# Altium schematic symbol library Schlib1.SchLib: 211 symbols (part 2 of 2)
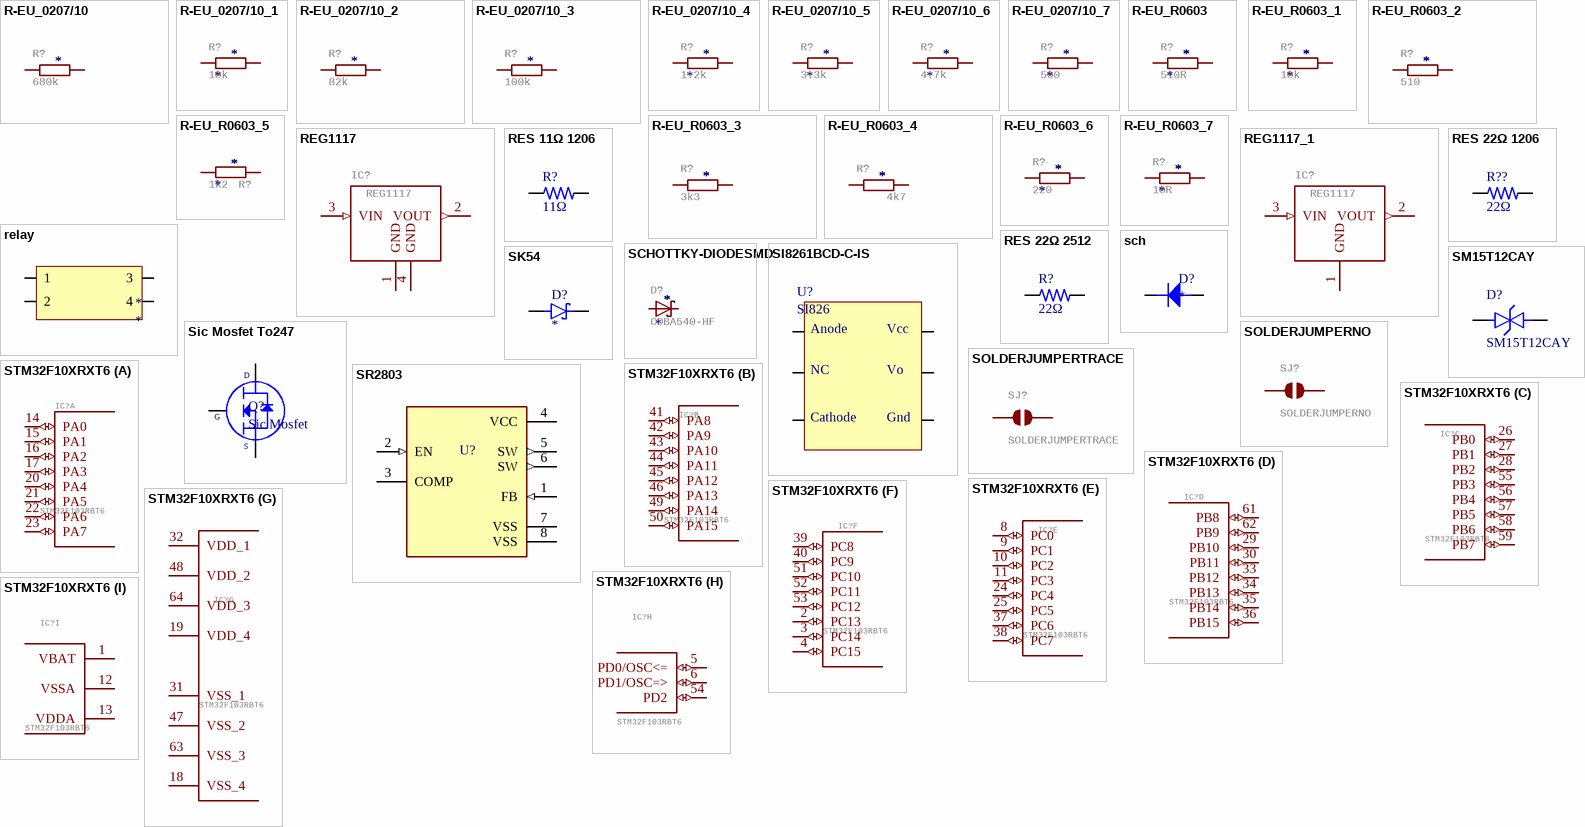
[diagram p6: symbols R-EU_0207/10 to STM32F10XRXT6]

## R-EU_R0603_7
designator R?  value 10R
RESISTOR, European symbol; GateName_1: G$1; SymbolName_1: R-EU; DeviceName: R0603; DeviceSetName: R-EU_; LibraryName: rcl
footprint R0603
pins: 1, 2

## REG1117
designator IC?
800mA and 1A Low Dropout (LDO) Positive Regulator   1.8V, 2.5V, 2.85V, 3.3V, 5V, and Adj; GateName_1: G$1; SymbolName_1: REG1118; LibraryName: burr-brown; DeviceSetName: REG1117; MF: MF; MPN: REG1117; OC_FARNELL: 1097566; OC_NEWARK: 14P6981
footprint SOT223
pins: 1 GND (power), 2 VOUT (out), 3 VIN (in), 4 GND (power)

## REG1117_1
designator IC?, comment REG1117
800mA and 1A Low Dropout (LDO) Positive Regulator   1.8V, 2.5V, 2.85V, 3.3V, 5V, and Adj; GateName_1: G$1; SymbolName_1: REG1118; LibraryName: burr-brown; DeviceSetName: REG1117; MF: MF; MPN: REG1117; OC_FARNELL: 1097566; OC_NEWARK: 14P6981
footprint SOT223
pins: 1 GND (power), 2 VOUT (out), 3 VIN (in)

## relay
designator *
footprint Relay
pins: 1, 2, 3, 4

## RES 11Ω 1206
designator R?, comment 11Ω
CRG1206 1% 11R; MP: 1623463-1; Package: None; Price: None; Value: *; Availability: Unavailable
footprint R-1206W (resistor 1206 wave soldering)
pins: 1, 2

## RES 22Ω 1206
designator R??, comment 22Ω
CRG1206 1% 22R; MP: 1623463-1; Package: None; Price: None; Value: *; Availability: Unavailable
footprint R-1206W (resistor 1206 wave soldering)
pins: 1, 2

## RES 22Ω 2512
designator R?, comment 22Ω
footprint R-2512R (resistor 2512 reflow soldering)
footprint R-1206
pins: 1, 2

## sch
designator D?
DIODE FAST SWITCHING Single 150mA 75V SMT SOD323
footprint DPAK_TO263 - sch (D2-PAK, 3-Pads, Body 7.93x8.70mm (max), IPC Medium Density)
pins: 1, 2

## SCHOTTKY-DIODESMD
designator D?  value CDBA540-HF
Schottky Diode; GateName_1: G$1; DeviceName: SMD; DeviceSetName: SCHOTTKY-DIODE; SymbolName_1: SCHOTTKY; LibraryName: diode
footprint SMB
pins: A, C

## SI8261BCD-C-IS
designator U?, comment SI826
Gate Drivers 5kV Opto input single Ch 2.5A drvr; Manufacturer: Silicon Labs; Manufacturer Part Number: SI8261BCD-C-IS; Number of Channels: 1; Propagation Delay: 50ns; Number of Outputs: 2; Max Output Current: 4A; Max Supply Voltage: 30V; Min Supply Voltage: 5V; Rise Time: 5.5ns; Output Current: 10mA; Nominal Supply Current: 2mA; Max Power Dissipation: 300mW; Output Voltage: 250mV; Forward Voltage: 2.8V; High Level Output Current: 1.2A; Low Level Output Current: 500mA; Fall Time: 8.5ns; Turn-On Delay Time: 60ns; Pulse Width Distortion (PWD): 10ns; Approvals: CSA; Supplier 1: Digi-Key; RoHS: Yes; Stock 1: 6966; Pricing 1: 1 = 1.95000, 25 = 1.88040, 100 = 1.80800, 1000 = 1.65000 (USD); Case/Package: SOIC; Number of Pins: 6; Min Operating Temperature: -40°C; Max Operating Temperature: 125°C; Package Quantity: 96; Packaging: Rail/Tube; Number of Drivers: 1; Element Configuration: Single; Length: 4.58mm; Height: 2.05mm; Width: 11.5mm; REACH SVHC: Unknown; ComponentLink1URL: https://datasheet.ciiva.com/30476/0900766b81299254-30476857.pdf?src-supplier=RSComponents; ComponentLink1Description: https://datasheet.ciiva.com/30476/0900766b81299254-30476857.pdf?src-supplier=RSComponents; ComponentLink2URL: https://datasheet.ciiva.com/18617/si826x-rev0-9-18617221.pdf?src-supplier=Digi-Key; ComponentLink2Description: https://datasheet.ciiva.com/18617/si826x-rev0-9-18617221.pdf?src-supplier=Digi-Key; ComponentLink3URL: https://datasheet.ciiva.com/46409/1816586-46409901.pdf?src-supplier=Element14; ComponentLink3Description: https://datasheet.ciiva.com/46409/1816586-46409901.pdf?src-supplier=Element14; Supplier Part Number 1: 336-2418-5-ND
footprint SOIC127P1150X265-6N
pins: 1, 2, 3, 4, 5, 6
text: Anode; Vcc; NC; Vo; Cathode; Gnd

## Sic Mosfet To247
designator Q?, comment Sic Mosfet
SiC Mosfet To247
footprint 247
pins: 1, 2, 3
text: D; G; S

## SK54
designator D?
Diode Schottky 40V 5A Surface Mount DO-214AA (SMB); MP: MBRS320T3G; MF: ON Semiconductor; Package: DO-214 ON Semiconductor; Availability: Good; Arrow_Electronics-Purchase-URL: https://snapeda.com/shop?store=Arrow+Electronics&id=432205; SnapEDA_Link: https://www.snapeda.com/parts/MBRS320T3G/ON%20Semiconductor/view-part/432205/?ref=snap; DigiKey-Purchase-URL: https://snapeda.com/shop?store=DigiKey&id=432205; Mouser-Purchase-URL: https://snapeda.com/shop?store=Mouser&id=432205; Value: *; Price: None
footprint DIOM7959X265N
pins: A, C K

## SM15T12CAY
designator D?
21.7V Clamp 461A (8/20µs) Ipp Tvs Diode Surface Mount SMC; MP: SMBJ36CA-13-F; MF: Diodes Inc.; Package: DO-214 Diodes Inc.; Price: None; Value: *; SnapEDA_Link: https://www.snapeda.com/parts/SMBJ36CA-13-F/Diodes%20Inc./view-part/828964/?ref=snap; Availability: Unavailable
footprint DIOM7959X262N
pins: 1, 2

## SOLDERJUMPERNO
designator SJ?
Solder JumperStandard SMD solder jumper. Used to automate production. Two varients : Normally Open and Normally Closed are the same, but have different paste layers. NC will have a large amount of paste and should jumper during reflow.; GateName_1: 1; SymbolName_1: SJ; DeviceName: NO; LibraryName: SparkFun-Passives; DeviceSetName: SOLDERJUMPER
footprint SJ_2S-NO
pins: 1, 2

## SOLDERJUMPERTRACE
designator SJ?
Solder JumperStandard SMD solder jumper. Used to automate production. Two varients : Normally Open and Normally Closed are the same, but have different paste layers. NC will have a large amount of paste and should jumper during reflow.; GateName_1: 1; SymbolName_1: SJ; DeviceName: TRACE; LibraryName: SparkFun-Passives; DeviceSetName: SOLDERJUMPER
footprint SJ_2S-TRACE
pins: 1, 2

## SR2803
designator U?  (value not drawn)
330KHZ, 3A SYNCHRONOUS / BUCK CONTROLLER; MF: Taiwan Semiconductor Corporation; MP: TS2509CS RLG; Package: SOP-8 Taiwan Semiconductor; Check_prices: https://www.snapeda.com/parts/TS2509CS%20RLG/Taiwan+Semiconductor+Corporation/view-part/?ref=eda; Value: *; Price: None; Availability: In Stock; SnapEDA_Link: https://www.snapeda.com/parts/TS2509CS%20RLG/Taiwan+Semiconductor+Corporation/view-part/?ref=snap
footprint SOP127P600X175-8N
pins: 1 FB (in), 2 EN (in), 3 COMP, 4 VCC (power), 5 SW (out), 6 SW (out), 7 VSS (power), 8 VSS (power)

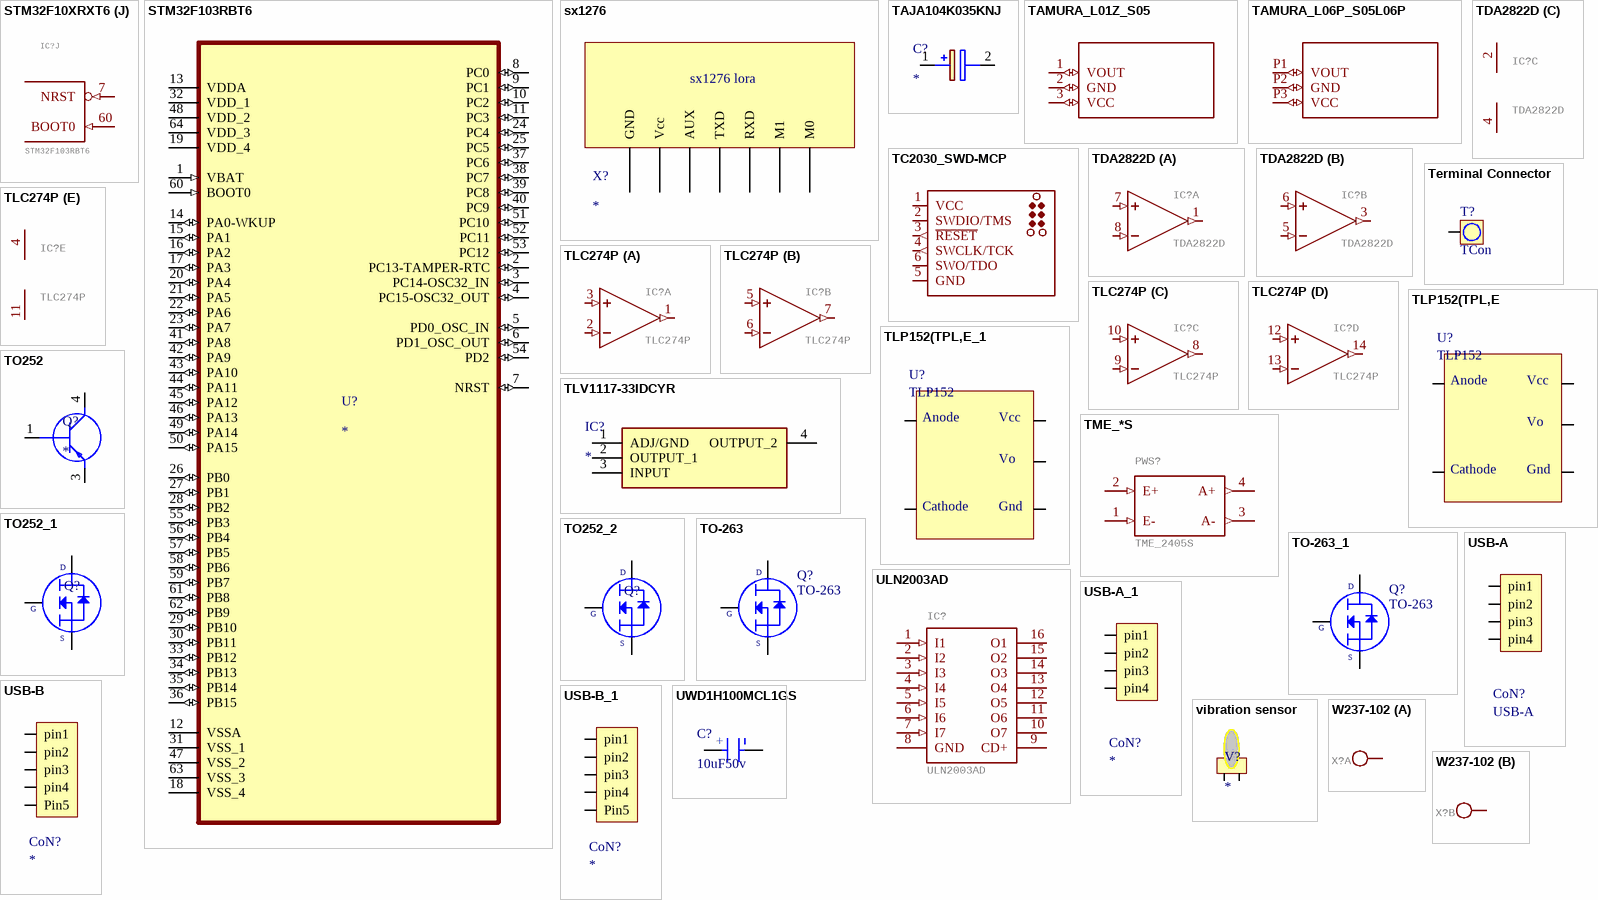
[diagram p5: symbols STM32F10XRXT6 to W237-102]

## STM32F10XRXT6
designator IC?, comment STM32F103RBT6
STM32F101/103 64pin LQFP; GateName_1: PORTA_L; SymbolName_1: PORT_A_L; GateName_2: PORTA_H; SymbolName_2: PORT_A_H; GateName_3: PORTB_L; SymbolName_3: PORT_B_L; GateName_4: PORTB_H; SymbolName_4: PORT_B_H; GateName_5: PORTC_L; SymbolName_5: PORT_C_L; GateName_6: PORTC_H; SymbolName_6: PORT_C_H; GateName_7: POWER; SymbolName_7: VCC_VDD_M; GateName_8: PORTD/OSC; SymbolName_8: PORT_D_3; GateName_9: AN_POWER; SymbolName_9: BAT_AN_M; GateName_10: RESET; SymbolName_10: BOOT_RST; DeviceSetName: STM32F10XRXT6; LibraryName: stm32
footprint TQFP64
part A pins: 14 PA0 (io), 15 PA1 (io), 16 PA2 (io), 17 PA3 (io), 20 PA4 (io), 21 PA5 (io), 22 PA6 (io), 23 PA7 (io)
part B pins: 41 PA8 (io), 42 PA9 (io), 43 PA10 (io), 44 PA11 (io), 45 PA12 (io), 46 PA13 (io), 49 PA14 (io), 50 PA15 (io)
part C pins: 26 PB0 (io), 27 PB1 (io), 28 PB2 (io), 55 PB3 (io), 56 PB4 (io), 57 PB5 (io), 58 PB6 (io), 59 PB7 (io)
part D pins: 29 PB10 (io), 30 PB11 (io), 33 PB12 (io), 34 PB13 (io), 35 PB14 (io), 36 PB15 (io), 61 PB8 (io), 62 PB9 (io)
part E pins: 8 PC0 (io), 9 PC1 (io), 10 PC2 (io), 11 PC3 (io), 24 PC4 (io), 25 PC5 (io), 37 PC6 (io), 38 PC7 (io)
part F pins: 2 PC13 (io), 3 PC14 (io), 4 PC15 (io), 39 PC8 (io), 40 PC9 (io), 51 PC10 (io), 52 PC11 (io), 53 PC12 (io)
part G pins: 18 VSS_4 (power), 19 VDD_4 (power), 31 VSS_1 (power), 32 VDD_1 (power), 47 VSS_2 (power), 48 VDD_2 (power), 63 VSS_3 (power), 64 VDD_3 (power)
part H pins: 5 PD0/OSC<= (io), 6 PD1/OSC=> (io), 54 PD2 (io)
part I pins: 1 VBAT (power), 12 VSSA (power), 13 VDDA (power)
part J pins: 7 NRST (in), 60 BOOT0 (in)

## STM32F103RBT6
designator U?
ARMÂ® CortexÂ®-M3 STM32F1 Microcontroller IC 32-Bit 72MHz 128KB _128K x 8_ FLASH; MP: STM32F103RBT6; MF: STMicroelectronics; Value: *; Package: LQFP-64 STMicroelectronics; Price: None; SnapEDA_Link: https://www.snapeda.com/parts/STM32F103RBT6/STMicroelectronics/view-part/558286/?ref=snap; Availability: Unavailable
footprint QFP50P1200X1200X160-64N
pins: 1 VBAT (in), 2 PC13-TAMPER-RTC (io), 3 PC14-OSC32_IN (io), 4 PC15-OSC32_OUT (io), 5 PD0_OSC_IN (io), 6 PD1_OSC_OUT (io), 7 NRST (io), 8 PC0 (io), 9 PC1 (io), 10 PC2 (io), 11 PC3 (io), 12 VSSA, 13 VDDA (power), 14 PA0-WKUP (io), 15 PA1 (io), 16 PA2 (io), 17 PA3 (io), 18 VSS_4, 19 VDD_4 (power), 20 PA4 (io), 21 PA5 (io), 22 PA6 (io), 23 PA7 (io), 24 PC4 (io), 25 PC5 (io), 26 PB0 (io), 27 PB1 (io), 28 PB2 (io), 29 PB10 (io), 30 PB11 (io), 31 VSS_1, 32 VDD_1 (power), 33 PB12 (io), 34 PB13 (io), 35 PB14 (io), 36 PB15 (io), 37 PC6 (io), 38 PC7 (io), 39 PC8 (io), 40 PC9 (io), 41 PA8 (io), 42 PA9 (io), 43 PA10 (io), 44 PA11 (io), 45 PA12 (io), 46 PA13 (io), 47 VSS_2, 48 VDD_2 (power), 49 PA14 (io), 50 PA15 (io), 51 PC10 (io), 52 PC11 (io), 53 PC12 (io), 54 PD2 (io), 55 PB3 (io), 56 PB4 (io), 57 PB5 (io), 58 PB6 (io), 59 PB7 (io), 60 BOOT0 (in), 61 PB8 (io), 62 PB9 (io), 63 VSS_3, 64 VDD_3 (power)

## sx1276
designator X?
footprint sx1276 lora
pins: 1 GND, 2 Vcc, 3 AUX, 4 TXD, 5 RXD, 6 M1, 7 M0
text: sx1276 lora

## TAJA104K035KNJ
designator C?
Capacitor Polarised; Manufacturer_Name: AVX; Manufacturer_Part_Number: TAJA104K035KNJ; Datasheet Link: http://www.farnell.com/datasheets/1680476.pdf; Height: 1.8mm; Mouser Part Number: 581-TAJA104K035KNJ; Mouser Price/Stock: https://www.mouser.com/Search/Refine.aspx?Keyword=581-TAJA104K035KNJ
footprint CAPPM3216X180N
footprint TANTALUMCAP1206
pins: 1 +, 2 -

## TAMURA_L01Z_S05
designator U$?  (value not drawn)
GateName_1: G$1; SymbolName_1: TAMURA_L01Z_S05; LibraryName: current sensor; DeviceSetName: TAMURA_L01Z_S05
footprint TAMURA_L01Z_S05
pins: 1 VOUT (io), 2 GND (io), 3 VCC (io)

## TAMURA_L06P_S05L06P
designator U$?  (value not drawn)
GateName_1: G$1; SymbolName_1: TAMURA_L01Z_S05; DeviceName: L06P; LibraryName: current sensor; DeviceSetName: TAMURA_L06P_S05
footprint TAMURA_L06P_S05
pins: P1 VOUT (io), P2 GND (io), P3 VCC (io)

## TC2030_SWD-MCP
designator J?  (value not drawn)
ARM20-CTX 20-Pin to TC2030-IDC Adapter for Cortex           6-Pin (TC2030-IDC family)  Cortex SWD  Adapters                  The Tag-Connect ARM20-CTX adapter board allows our TC2030-IDC cables to be used for ARM SWD (Single Wire Debug) applications. Although intended for use with our patented TC2030-IDC (and TC2030-IDC-NL) Plug-of-Nailsâ„¢ Cables, the adapter may be useful to people wishing to use 6-pin 0.1â€ ribbon headers on their PCB instead of the traditional 20-Pin header.   Please note the TC2030-IDC or TC2030-IDC-NL cable is purchased separately, the cables and Segger JLINK seen in the pictures are not included!   Download the Datasheet here.; GateName_1: G$1; DeviceName: -MCP; SymbolName_1: SWD; LibraryName: tag-connect; DeviceSetName: TC2030_SWD
footprint TC2030-MCP
pins: 1 VCC, 2 SWDIO/TMS (io), 3 ~{RESET} (out), 4 SWCLK/TCK (out), 5 GND, 6 SWO/TDO (io)

## TDA2822D
designator IC?
OP AMP; GateName_1: A; SymbolName_1: OPAMP; GateName_2: B; GateName_3: P; SymbolName_3: PWR+-; DeviceName: D; SymbolName_2: OPAMP; LibraryName: st-microelectronics; DeviceSetName: TDA2822
footprint SO08
part A pins: 1 OUT (out), 7 +IN (in), 8 -IN (in)
part B pins: 3 OUT (out), 5 -IN (in), 6 +IN (in)
part C pins: 2 V+ (power), 4 V- (power)

## Terminal Connector
designator T?, comment TCon
ComponentLink1Description: https://www.ozdisan.com/konnektor-baglanti-elemanlari/terminal-konnektorler/vida-tipi-konnektorler/K36-00AH; ComponentLink1URL: https://www.ozdisan.com/konnektor-baglanti-elemanlari/terminal-konnektorler/vida-tipi-konnektorler/K36-00AH
footprint connectorout
pins: 1

## TLC274P
designator IC?
OP AMP; GateName_1: A; SymbolName_1: OPAMP; GateName_2: B; GateName_3: C; GateName_4: D; GateName_5: P; SymbolName_5: PWR+-; DeviceSetName: TLC274; SymbolName_2: OPAMP; SymbolName_3: OPAMP; SymbolName_4: OPAMP; DeviceName: P; LibraryName: linear
footprint DIL14
part A pins: 1 OUT (out), 2 -IN (in), 3 +IN (in)
part B pins: 5 +IN (in), 6 -IN (in), 7 OUT (out)
part C pins: 8 OUT (out), 9 -IN (in), 10 +IN (in)
part D pins: 12 +IN (in), 13 -IN (in), 14 OUT (out)
part E pins: 4 V+ (power), 11 V- (power)

## TLP152(TPL,E
designator U?, comment TLP152
OPTOISO 3.75KV GATE DRIVER 6SO-5; Manufacturer: Toshiba; Manufacturer Part Number: TLP152(TPL,E; Number of Channels: 1; Propagation Delay: 165ns; Max Power Dissipation: 260mW; Direction: Unidirectional; Turn-On Delay Time: 190ns; Fall Time: 22ns; Forward Voltage: 1.57V; Output Current: 2.5A; Forward Current: 10mA; Rise Time: 18ns; High Level Output Current: 2A; Pulse Width Distortion (PWD): 50ns; Supplier 1: Mouser; RoHS: Yes; Stock 1: 22321; Pricing 1: 1 = 1.55000, 10 = 0.96800, 50 = 0.96800, 100 = 0.87200, 1000 = 0.54300, 10000 = 0.44000 (USD); Mount: Surface Mount; Case/Package: SO; Number of Pins: 5; Min Operating Temperature: -40°C; Max Operating Temperature: 100°C; Packaging: Tape and Reel; Package Quantity: 3000; Low Level Output Current: 2A; Max Output Current: 2.5A; ComponentLink1URL: https://datasheet.ciiva.com/41848/tlp152-datasheet-en-20120914-41848928.pdf?src-supplier=Digi-Key; ComponentLink1Description: https://datasheet.ciiva.com/41848/tlp152-datasheet-en-20120914-41848928.pdf?src-supplier=Digi-Key; Supplier Part Number 1: 757-TLP152TPLE
footprint TLP152 (SOTFL, 5-Leads, Body 3.75x7.20mm, Pitch 1.27mm, IPC Medium Density)
pins: 1, 2, 3, 4, 5
text: Anode; Vcc; Vo; Cathode; Gnd

## TLP152(TPL,E_1
designator U?, comment TLP152
OPTOISO 3.75KV GATE DRIVER 6SO-5; Manufacturer: Toshiba; Manufacturer Part Number: TLP152(TPL,E; Number of Channels: 1; Propagation Delay: 165ns; Max Power Dissipation: 260mW; Direction: Unidirectional; Turn-On Delay Time: 190ns; Fall Time: 22ns; Forward Voltage: 1.57V; Output Current: 2.5A; Forward Current: 10mA; Rise Time: 18ns; High Level Output Current: 2A; Pulse Width Distortion (PWD): 50ns; Supplier 1: Mouser; RoHS: Yes; Stock 1: 22321; Pricing 1: 1 = 1.55000, 10 = 0.96800, 50 = 0.96800, 100 = 0.87200, 1000 = 0.54300, 10000 = 0.44000 (USD); Mount: Surface Mount; Case/Package: SO; Number of Pins: 5; Min Operating Temperature: -40°C; Max Operating Temperature: 100°C; Packaging: Tape and Reel; Package Quantity: 3000; Low Level Output Current: 2A; Max Output Current: 2.5A; ComponentLink1URL: https://datasheet.ciiva.com/41848/tlp152-datasheet-en-20120914-41848928.pdf?src-supplier=Digi-Key; ComponentLink1Description: https://datasheet.ciiva.com/41848/tlp152-datasheet-en-20120914-41848928.pdf?src-supplier=Digi-Key; Supplier Part Number 1: 757-TLP152TPLE
footprint TLP152 (SOTFL, 5-Leads, Body 3.75x7.20mm, Pitch 1.27mm, IPC Medium Density)
pins: 1, 2, 3, 4, 5
text: Anode; Vcc; Vo; Cathode; Gnd

## TLV1117-33IDCYR
designator IC?
Integrated Circuit; Manufacturer_Name: Texas Instruments; Manufacturer_Part_Number: TLV1117-33IDCYR; Datasheet Link: http://www.ti.com/lit/ds/symlink/tlv1117-33.pdf; Height: 1.8mm; Mouser Part Number: 595-TLV1117-33IDCYR; Mouser Price/Stock: https://www.mouser.co.uk/ProductDetail/Texas-Instruments/TLV1117-33IDCYR?qs=p6lVfQR1GSoKgp3tAXcW5w%3D%3D; Arrow Part Number: TLV1117-33IDCYR; Arrow Price/Stock: https://www.arrow.com/en/products/tlv1117-33idcyr/texas-instruments
footprint TLV1117
pins: 1 ADJ/GND, 2 OUTPUT_1, 3 INPUT, 4 OUTPUT_2

## TME_*S
designator PWS?, comment TME_2405S
DC/DC Konverter 1 Watt   Source: http://www.tracopower.com/datasheet_g/tme-d.pdf; MPN: TME 2405S; GateName_1: G$1; SymbolName_1: TMEXXXXS; DeviceSetName: TME_*S; LibraryName: traco-electronic; MF: MF; OC_FARNELL: 1007547; OC_NEWARK: 51R5329
footprint TMEXXXXS
pins: 1 E- (in), 2 E+ (in), 3 A- (out), 4 A+ (out)

## TO252
designator Q?
footprint D-PAK_TO252AA
pins: 1 B, 3 E, 4 C

## TO252_1
designator Q?
Manufacturer: Infineon; Manufacturer Part Number: IRF3205STRLPBF; Drain to Source Voltage (Vdss): 55V; Continuous Drain Current (ID): 110A; Rds On Max: 8mR; Input Capacitance: 3.247nF; Max Power Dissipation: 200W; Turn-Off Delay Time: 50ns; Turn-On Delay Time: 14ns; Gate to Source Voltage (Vgs): 20V; Threshold Voltage: 4V; Supplier 1: Digi-Key; RoHS: Yes; Stock 1: 3281; Pricing 1: 1 = 1,84000, 10 = 1,66600, 100 = 1,33840 (USD); Mount: Surface Mount; Case/Package: D2PAK; Number of Pins: 3; Min Operating Temperature: -55°C; Max Operating Temperature: 175°C; Packaging: Cut Tape; Power Dissipation: 200W; Drain to Source Resistance: 8mR; Drain to Source Breakdown Voltage: 55V; Length: 0.42inch; Height: 0.19inch; Width: 0.38inch; REACH SVHC: No SVHC; Lead Free: Lead Free; ComponentLink1URL: https://www.alliedelec.com/m/d/b8827ca43655240244f0cc5c2198e6b1.pdf?src-supplier=Allied+Electronics; ComponentLink1Description: https://www.alliedelec.com/m/d/b8827ca43655240244f0cc5c2198e6b1.pdf?src-supplier=Allied+Electronics; ComponentLink2URL: https://www.infineon.com/dgdl/irf3205spbf.pdf?fileId=5546d462533600a4015355defac9190c&src-supplier=Digi-Key; ComponentLink2Description: https://www.infineon.com/dgdl/irf3205spbf.pdf?fileId=5546d462533600a4015355defac9190c&src-supplier=Digi-Key; ComponentLink3URL: http://www.infineon.com/dgdl/irf3205spbf.pdf?fileId=5546d462533600a4015355defac9190c&src-supplier=Digi-Key; ComponentLink3Description: http://www.infineon.com/dgdl/irf3205spbf.pdf?fileId=5546d462533600a4015355defac9190c&src-supplier=Digi-Key; ComponentLink4URL: http://www.farnell.com/datasheets/1884183.pdf?src-supplier=Element14; ComponentLink4Description: http://www.farnell.com/datasheets/1884183.pdf?src-supplier=Element14; Supplier Part Number 1: IRF3205STRLPBFCT-ND
footprint TO-252
pins: 1, 3, 4
text: D; G; S

## TO252_2
designator Q?
Manufacturer: Infineon; Manufacturer Part Number: IRF3205STRLPBF; Drain to Source Voltage (Vdss): 55V; Continuous Drain Current (ID): 110A; Rds On Max: 8mR; Input Capacitance: 3.247nF; Max Power Dissipation: 200W; Turn-Off Delay Time: 50ns; Turn-On Delay Time: 14ns; Gate to Source Voltage (Vgs): 20V; Threshold Voltage: 4V; Supplier 1: Digi-Key; RoHS: Yes; Stock 1: 3281; Pricing 1: 1 = 1,84000, 10 = 1,66600, 100 = 1,33840 (USD); Mount: Surface Mount; Case/Package: D2PAK; Number of Pins: 3; Min Operating Temperature: -55°C; Max Operating Temperature: 175°C; Packaging: Cut Tape; Power Dissipation: 200W; Drain to Source Resistance: 8mR; Drain to Source Breakdown Voltage: 55V; Length: 0.42inch; Height: 0.19inch; Width: 0.38inch; REACH SVHC: No SVHC; Lead Free: Lead Free; ComponentLink1URL: https://www.alliedelec.com/m/d/b8827ca43655240244f0cc5c2198e6b1.pdf?src-supplier=Allied+Electronics; ComponentLink1Description: https://www.alliedelec.com/m/d/b8827ca43655240244f0cc5c2198e6b1.pdf?src-supplier=Allied+Electronics; ComponentLink2URL: https://www.infineon.com/dgdl/irf3205spbf.pdf?fileId=5546d462533600a4015355defac9190c&src-supplier=Digi-Key; ComponentLink2Description: https://www.infineon.com/dgdl/irf3205spbf.pdf?fileId=5546d462533600a4015355defac9190c&src-supplier=Digi-Key; ComponentLink3URL: http://www.infineon.com/dgdl/irf3205spbf.pdf?fileId=5546d462533600a4015355defac9190c&src-supplier=Digi-Key; ComponentLink3Description: http://www.infineon.com/dgdl/irf3205spbf.pdf?fileId=5546d462533600a4015355defac9190c&src-supplier=Digi-Key; ComponentLink4URL: http://www.farnell.com/datasheets/1884183.pdf?src-supplier=Element14; ComponentLink4Description: http://www.farnell.com/datasheets/1884183.pdf?src-supplier=Element14; Supplier Part Number 1: IRF3205STRLPBFCT-ND
footprint TO-252
pins: 1, 3, 4
text: D; G; S

## TO-263
designator Q?
footprint DPAK_TO263 (D2-PAK, 3-Pads, Body 7.93x8.70mm (max), IPC Medium Density)
pins: 1, 2, 3
text: D; G; S

## TO-263_1
designator Q?, comment TO-263
footprint DPAK_TO263 (D2-PAK, 3-Pads, Body 7.93x8.70mm (max), IPC Medium Density)
pins: 1, 2, 3
text: D; G; S

## ULN2003AD
designator IC?
DRIVER ARRAY; GateName_1: A; SymbolName_1: 2001A; DeviceName: D; LibraryName: uln-udn; DeviceSetName: ULN2003A
footprint SO16
pins: 1 I1 (in), 2 I2 (in), 3 I3 (in), 4 I4 (in), 5 I5 (in), 6 I6 (in), 7 I7 (in), 8 GND (power), 9 CD+, 10 O7 (oc), 11 O6 (oc), 12 O5 (oc), 13 O4 (oc), 14 O3 (oc), 15 O2 (oc), 16 O1 (oc)

## USB-A
designator CoN?
footprint usb  a
pins: 1 pin1, 2 pin2, 3 pin3, 4 pin4

## USB-A_1
designator CoN?
footprint usb  a
pins: 1 pin1, 2 pin2, 3 pin3, 4 pin4

## USB-B
designator CoN?
footprint micro USB b
pins: 1 pin1, 2 pin2, 3 pin3, 4 pin4, 5 Pin5

## USB-B_1
designator CoN?
footprint micro USB b
pins: 1 pin1, 2 pin2, 3 pin3, 4 pin4, 5 Pin5

## UWD1H100MCL1GS
designator C?, comment 10uF50v
Aluminum Electrolytic Capacitors - SMD 50volts 10uF 6.3x5.8; Manufacturer: Nichicon; Manufacturer Part Number: UWD1H100MCL1GS; Material: Aluminium; Voltage Rating: 50V; Tolerance: 20%; Ripple Current: 165mA; Impedance: 880mR; Leakage Current: 3uA; Life (Hours): 2000Hour; Dissipation Factor: 0.12%; Supplier 1: Digi-Key; RoHS: Yes; Stock 1: 8000; Pricing 1: 1000 = 0.23520, 2000 = 0.22050, 5000 = 0.20580, 10000 = 0.19845, 25000 = 0.19110, 50000 = 0.19040 (USD); Mount: Surface Mount; Case/Package: SMD/SMT; Min Operating Temperature: -55°C; Max Operating Temperature: 105°C; Package Quantity: 1; Capacitance: 10uF; Packaging: Tape and Reel; Voltage Rating (DC): 50V; Termination: SMD/SMT; Voltage: 50V; Features: General Purpose; Diameter: 6.3mm; Length: 5.8mm; Height: 5.8mm; Height - Seated (Max): 0.24inch; Lead Pitch: 2.2mm; Radiation Hardening: No; Lead Free: Lead Free; ComponentLink1URL: https://datasheet.ciiva.com/11783/0900766b8080ae55-11783196.pdf?src-supplier=RSComponents; ComponentLink1Description: https://datasheet.ciiva.com/11783/0900766b8080ae55-11783196.pdf?src-supplier=RSComponents; ComponentLink2URL: https://datasheet.ciiva.com/17526/e-wd-17526757.pdf?src-supplier=Avnet+Europe; ComponentLink2Description: https://datasheet.ciiva.com/17526/e-wd-17526757.pdf?src-supplier=Avnet+Europe; ComponentLink3URL: https://datasheet.ciiva.com/5362/e-wd-5362054.pdf?src-supplier=Mouser; ComponentLink3Description: https://datasheet.ciiva.com/5362/e-wd-5362054.pdf?src-supplier=Mouser; ComponentLink4URL: https://datasheet.ciiva.com/11686/e-wd-11686678.pdf?src-supplier=Avnet; ComponentLink4Description: https://datasheet.ciiva.com/11686/e-wd-11686678.pdf?src-supplier=Avnet; ComponentLink5URL: https://datasheet.ciiva.com/6310/e-wd-6310126.pdf?src-supplier=Digi-Key; ComponentLink5Description: https://datasheet.ciiva.com/6310/e-wd-6310126.pdf?src-supplier=Digi-Key; ComponentLink6URL: https://datasheet.ciiva.com/6310/e-wd-6310127.pdf?src-supplier=Digi-Key; ComponentLink6Description: https://datasheet.ciiva.com/6310/e-wd-6310127.pdf?src-supplier=Digi-Key; Supplier Part Number 1: 493-6294-2-ND
footprint CapSmdElc (Aluminum Electrolytic Capacitor, Body 6.70x6.70x6.30mm, IPC Low Density)
pins: 1, 2
text: +

## vibration sensor
designator V?
footprint VIBRATIONSENSOR
pins: 1, 2

## W237-102
designator X?  (value not drawn)
WAGO SCREW CLAMP; GateName_1: -1; SymbolName_1: KL; GateName_2: -2; SymbolName_2: KL+V; LibraryName: con-wago-500; DeviceSetName: W237-102; MF: MF; MPN: 237-102; OC_FARNELL: unknown; OC_NEWARK: 70K9898
footprint W237-102
part A pins: 1 KL
part B pins: 2 KL